# EAGLE library part RFID_MODULE (library (misc)-parts-that-we-use)
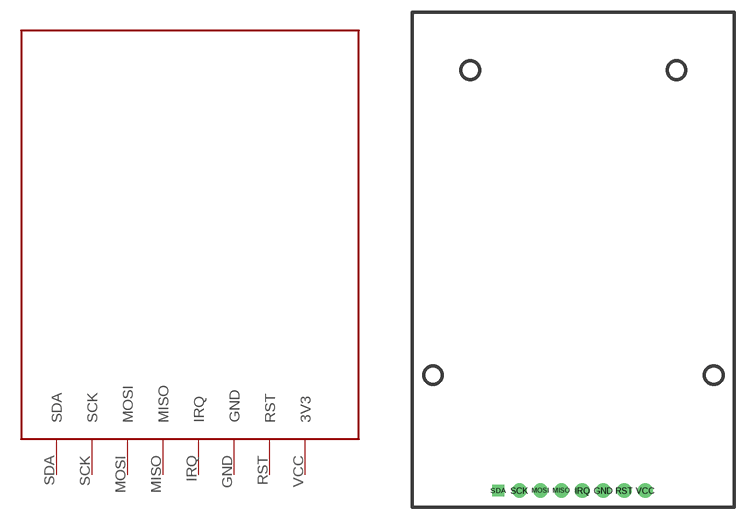
[diagram p16: symbol with the pads of RFID_MODULE; footprint RFID_MODULE]

Designator prefix -

## RFID_MODULE  [RFID_MODULE]
GND  GND
IRQ  IRQ
MISO  MISO
MOSI  MOSI
RST  RST
SCK  SCK
SDA  SDA
VCC  3V3

## Footprint RFID_MODULE (pad centres in mm)
drill 0.8 pad 1.778: GND 5.13,-3; IRQ 2.59,-3; MISO 0.05,-3; MOSI -2.49,-3; RST 7.67,-3; SCK -5.03,-3; VCC 10.21,-3
drill 0.8 pad 1.422 square: SDA -7.6,-3